# EAGLE library part MCP23008 (library microchip)
8-Bit IO-Expander I2C/SPI 8-Bit I/O Expander with Serial Interface.
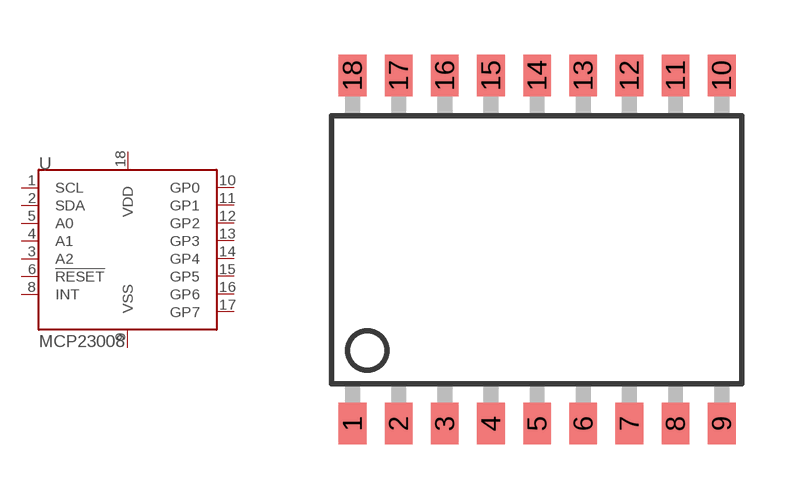
[diagram p145: symbol with the pads of SO-18W; footprint SO-18W]

Designator prefix -

## MCP23008  [SO-18W]
1  SCL  in
2  SDA  in
3  A2  in
4  A1  in
5  A0  in
6  !RESET!  in
8  INT  out
9  VSS  pwr
10  GP0
11  GP1
12  GP2
13  GP3
14  GP4
15  GP5
16  GP6
17  GP7
18  VDD  pwr

## Footprint SO-18W (pad centres in mm)
Small Outline Wide Plastic Gull Wing 300-mil body, package type SO
smd 0.762 x 1.143: 1 -5.08,-4.788; 2 -3.81,-4.788; 3 -2.54,-4.788; 4 -1.27,-4.788; 5 0,-4.788; 6 1.27,-4.788; 7 2.54,-4.788; 8 3.81,-4.788; 9 5.08,-4.788; 10 5.08,4.788; 11 3.81,4.788; 12 2.54,4.788; 13 1.27,4.788; 14 0,4.788; 15 -1.27,4.788; 16 -2.54,4.788; 17 -3.81,4.788; 18 -5.08,4.788